# EAGLE library part LT6230 (library linear-technology)
215MHz, Rail-to-Rail Output, 1.1nV/Hz, 3.5mA Op Amp Source: http://cds.linear.com/docs/Datasheet/623012fb.pdf
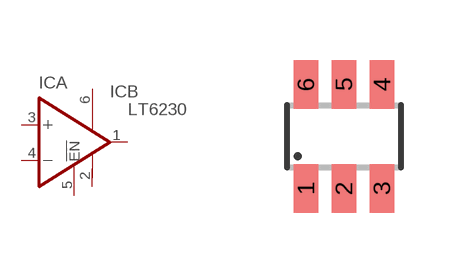
[diagram p25: symbol with the pads of TSOT23-6; footprint TSOT23-6]

Designator prefix IC; gates A=OPAMP-EN B=V+-

## LT6230CS6, LT6230CS6-10, LT6230IS6, LT6230IS6-10  [TSOT23-6]
1  A:OUT  out
2  B:V-  pwr
3  A:+IN  in
4  A:-IN  in
5  A:!EN
6  B:V+  pwr

## Footprint TSOT23-6 (pad centres in mm)
S6 Package 6-Lead Plastic TSOT-23 Source: http://cds.linear.com/docs/Datasheet/623012fb.pdf
smd 0.62 x 1.22: 1 -0.95,-1.3; 2 0,-1.3; 3 0.95,-1.3; 4 0.95,1.3; 5 0,1.3; 6 -0.95,1.3